# EAGLE library part LED_3X (library robo_ag)
Led Reichelt: LRTB G6TG 280/900/180 mcd 2,1/3,2/3,2 V 20mA RGB-Led SMD
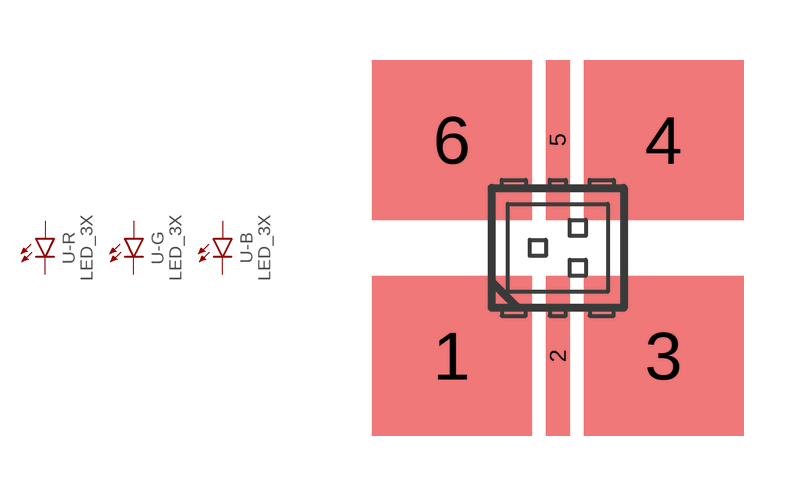
[diagram p15: symbol with the pads of LED_TOP_PLCC6; footprint LED_TOP_PLCC6]

Designator prefix -; gates -R=LED -G=LED -B=LED

## LED_3X  [LED_TOP_PLCC6]
1  -R:A  pas
2  -G:C  pas
3  -G:A  pas
4  -B:A  pas
5  -B:C  pas
6  -R:C  pas

## Footprint LED_TOP_PLCC6 (pad centres in mm)
smd 4 x 4: 1 -2.65,-2.7; 3 2.65,-2.7; 4 2.65,2.7; 6 -2.65,2.7
smd 0.6 x 4: 2 0,-2.7; 5 0,2.7